# EAGLE library part TALKIE_D-PAD (library talkie)
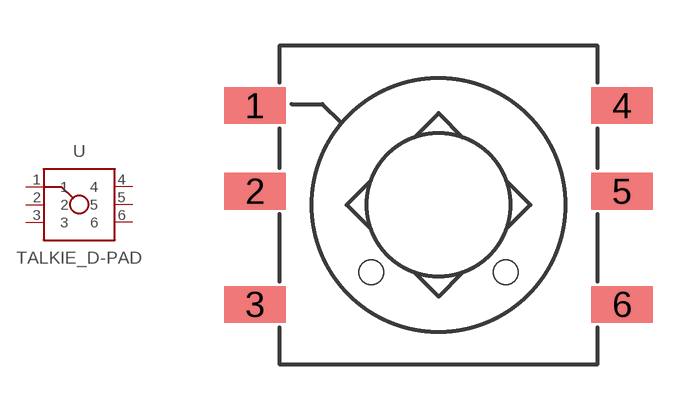
[diagram p5: symbol with the pads of TALKIE_DPAD-10X10; footprint TALKIE_DPAD-10X10]

Designator prefix -

## TALKIE_D-PAD  [TALKIE_DPAD-10X10]
1  1
2  2
3  3
4  4
5  5
6  6

## Footprint TALKIE_DPAD-10X10 (pad centres in mm)
smd 2 x 1.2: 1 -6,3.25; 2 -6,0.45; 3 -6,-3.25; 4 6,3.25; 5 6,0.45; 6 6,-3.25
hole 0.8 at -2.2,-2.2
hole 0.8 at 2.2,-2.2